# Altium footprint library SigFox.PcbLib: 10 footprints
Each footprint in its own frame and in the unit in brackets; x right, y up, seen from the top. Pads: shape width x height; smd on the part's side, far side on the other; paste and mask are expansions set on the pad; w line width, h text height; cw(c..) or ccw(c..) is an arc to the next point about the centre after c.
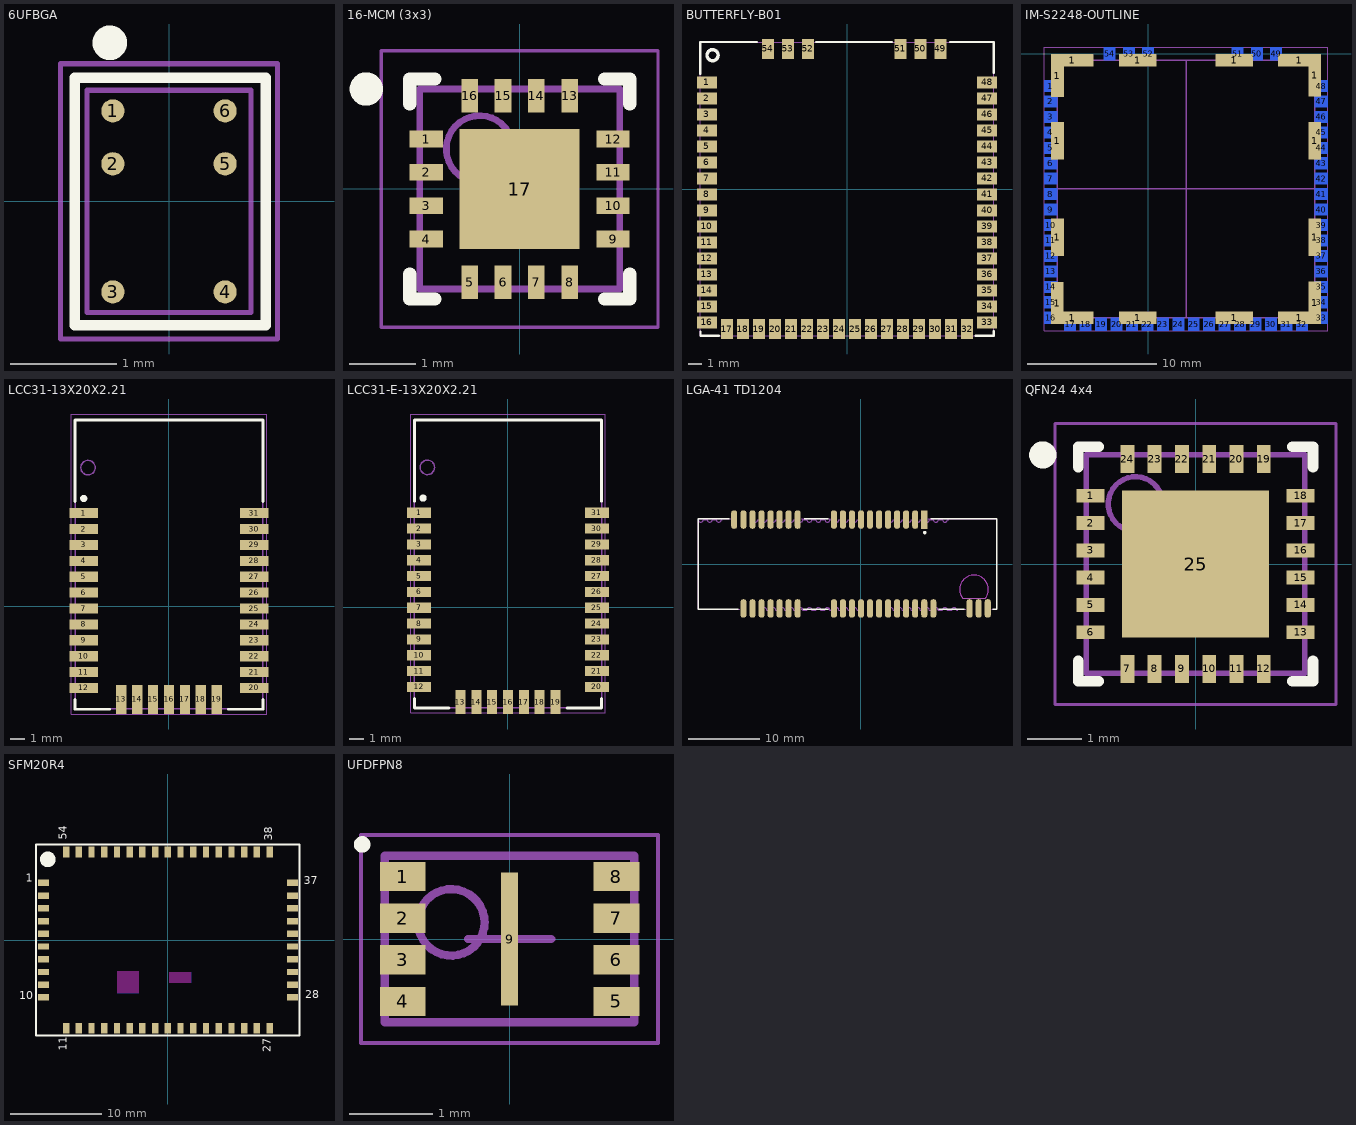
[diagram p0: the footprints below, top view; thin cyan lines are the x and y axes]

## 6UFBGA [mm] "Flip-Chip 6 bumps package"
pads (6):
  round 0.22 smd mask+0.05: 1(-0.53,0.855) 2(-0.53,0.355) 3(-0.53,-0.855) 4(0.53,-0.855) 5(0.53,0.355) 6(0.53,0.855)
Top Overlay:
  circle w0.254: c-0.559,1.499 r0.036
  lines w0.1: -0.889,-1.168 0.914,-1.168 0.914,1.168 -0.889,1.168 -0.889,-1.05 -0.889,-1.168
Mechanical 2:
  lines w0.05: -0.775,-1.05 -0.775,1.05 0.775,1.05 0.775,0 0.775,-1.05 -0.775,-1.05
Mechanical 15:
  lines w0.05: -1.025,-1.3 -1.025,-1.05 -1.025,1.3 1.025,1.3 1.025,-1.05 1.025,-1.3 0.775,-1.3 -1.025,-1.3
3D body: height 0.4, standoff 0.21, extent -0.775,-1.05 0.775,1.05
3D body: height 0.26, standoff 0, extent -0.655,0.227 -0.404,0.475
3D body: height 0.26, standoff 0, extent 0.405,0.727 0.656,0.975
3D body: height 0.26, standoff 0, extent -0.655,-0.983 -0.404,-0.735
3D body: height 0.26, standoff 0, extent 0.405,0.227 0.656,0.475
3D body: height 0.26, standoff 0, extent -0.655,0.727 -0.404,0.975
3D body: height 0.26, standoff 0, extent 0.405,-0.983 0.656,-0.735
3D body: height 0.63, standoff 0.4, extent -0.775,-1.05 0.775,1.05
3D body: height 0.63, standoff 0, extent -0.63,0.755 -0.43,0.954

## 16-MCM (3x3) [mm] "MCM (16-pin, 3.0 x 3.0 x 0.75 mm)"
height 0.75
pads (17):
  rect 0.5x0.249 smd: 1(-1.4,0.75) 2(-1.4,0.25) 3(-1.4,-0.25) 4(-1.4,-0.75) 9(1.4,-0.75) 10(1.4,-0.25) 11(1.4,0.25) 12(1.4,0.75)
  rect 0.249x0.5 smd: 5(-0.75,-1.4) 6(-0.25,-1.4) 7(0.25,-1.4) 8(0.75,-1.4) 13(0.75,1.4) 14(0.25,1.4) 15(-0.25,1.4) 16(-0.75,1.4)
  rect 1.798x1.798 smd: 17(0,0)
Top Overlay:
  circle w0.25: c-2.3,1.5 r0.125
  lines w0.2: -1.65,-1.275 -1.65,-1.65 -1.275,-1.65 ; -1.65,1.275 -1.65,1.65 -1.275,1.65 ; 1.275,-1.65 1.65,-1.65 1.65,-1.275 ; 1.275,1.65 1.65,1.65 1.65,1.275
Mechanical 13:
  circle w0.1: c-0.6,0.6 r0.5
  lines w0.1: -1.5,-1.5 -1.5,1.5 1.5,1.5 1.5,-1.5 -1.5,-1.5
Mechanical 15:
  lines w0.05: -2.075,-2.075 -2.075,2.075 2.075,2.075 2.075,-2.075 -2.075,-2.075
  lines w0.1: -0.5,0 0.5,0 ; 0,-0.5 0,0.5
3D body "16-MCM (3x3).step": height 0.75, standoff 0, extent -1.5,-1.5 1.5,1.5

## BUTTERFLY-B01 [mm] "SigFox Monarch Module with Bluetooth"
pads (54):
  rect 1.5x0.9 smd mask+0: 1(-10.5,8) 2(-10.5,6.8) 3(-10.5,5.6) 4(-10.5,4.4) 5(-10.5,3.2) 6(-10.5,2) 7(-10.5,0.8) 8(-10.5,-0.4) 9(-10.5,-1.6) 10(-10.5,-2.8) 11(-10.5,-4) 12(-10.5,-5.2) 13(-10.5,-6.4) 14(-10.5,-7.6) 15(-10.5,-8.8) 16(-10.5,-10) 33(10.5,-10) 34(10.5,-8.8) 35(10.5,-7.6) 36(10.5,-6.4) 37(10.5,-5.2) 38(10.5,-4) 39(10.5,-2.8) 40(10.5,-1.6) 41(10.5,-0.4) 42(10.5,0.8) 43(10.5,2) 44(10.5,3.2) 45(10.5,4.4) 46(10.5,5.6) 47(10.5,6.8) 48(10.5,8)
  rect 0.89x1.5 smd mask+0: 17(-9,-10.5) 18(-7.8,-10.5) 19(-6.6,-10.5) 20(-5.4,-10.5) 21(-4.2,-10.5) 22(-3,-10.5) 23(-1.8,-10.5) 24(-0.6,-10.5) 25(0.6,-10.5) 26(1.8,-10.5) 27(3,-10.5) 28(4.2,-10.5) 29(5.4,-10.5) 30(6.6,-10.5) 31(7.8,-10.5) 32(9,-10.5)
  rect 0.9x1.5 smd mask+0: 49(7,10.5) 50(5.5,10.5) 51(4,10.5) 52(-2.94,10.5) 53(-4.44,10.5) 54(-5.94,10.5)
Top Overlay:
  circle w0.254: c-10.084,10.033 r0.417
  lines w0.18: -11,8.648 -11,11.024 -6.774,11.024 ; -10.99,-10.707 -10.99,-10.998 -9.619,-10.998 ; -2.304,11.024 3.361,11.024 ; 7.755,11.024 11,11.024 11,8.699 ; 9.634,-11.012 11.006,-11.012 11.006,-10.681
Mechanical 1:
  lines w0.01: -11,-10.998 -11,11.024 11,11.024 11,-10.998 -11,-10.998
3D body "Butterfly_Module.step": height 4.1, standoff 0.01, extent -11,-10.998 10.996,11.024

## IM-S2248-OUTLINE [mm] "Butterfly Module"
pads (70):
  rect 1x0.9 smd far side mask+0: 1(-7.56,-2.5) 2(-7.56,-3.7) 3(-7.56,-4.9) 4(-7.56,-6.1) 5(-7.56,-7.3) 6(-7.56,-8.5) 7(-7.56,-9.7) 8(-7.56,-10.9) 9(-7.56,-12.1) 10(-7.56,-13.3) 11(-7.56,-14.5) 12(-7.56,-15.7) 13(-7.56,-16.9) 14(-7.56,-18.1) 15(-7.56,-19.3) 16(-7.56,-20.5) 33(13.44,-20.5) 34(13.44,-19.3) 35(13.44,-18.1) 36(13.44,-16.9) 37(13.44,-15.7) 38(13.44,-14.5) 39(13.44,-13.3) 40(13.44,-12.1) 41(13.44,-10.9) 42(13.44,-9.7) 43(13.44,-8.5) 44(13.44,-7.3) 45(13.44,-6.1) 46(13.44,-4.9) 47(13.44,-3.7) 48(13.44,-2.5)
  rect 1x3.3 smd: 1(-7.067,-19.357) 1(-7.06,-1.704) 1(12.94,-19.35) 1(12.94,-1.65)
  rect 1x2.9 smd: 1(-7.06,-14.25) 1(-7.06,-6.75) 1(12.94,-14.25) 1(12.94,-6.75)
  rect 3.3x1 smd: 1(-5.917,-20.5) 1(-5.91,-0.5) 1(11.736,-20.5) 1(11.736,-0.5)
  rect 2.9x1 smd: 1(-0.812,-0.5) 1(-0.81,-20.5) 1(6.69,-20.5) 1(6.69,-0.5)
  rect 0.89x1 smd far side mask+0: 17(-6.06,-21) 18(-4.86,-21) 19(-3.66,-21) 20(-2.46,-21) 21(-1.26,-21) 22(-0.06,-21) 23(1.14,-21) 24(2.34,-21) 25(3.54,-21) 26(4.74,-21) 27(5.94,-21) 28(7.14,-21) 29(8.34,-21) 30(9.54,-21) 31(10.74,-21) 32(11.94,-21)
  rect 0.9x1 smd far side mask+0: 49(9.94,0) 50(8.44,0) 51(6.94,0) 52(0,0) 53(-1.5,0) 54(-3,0)
Mechanical 1:
  lines w0.01: -8.06,-21.498 13.94,-21.498 13.94,0.524 -8.06,0.524 -8.06,-21.498
Mechanical 15:
  lines w0.1: -7.06,-10.5 12.94,-10.5 ; 2.94,-20.5 2.94,-0.5 ; -7.06,-20.5 -6.645,-20.5 12.802,-20.5 12.94,-20.5 12.94,-0.5 -7.06,-0.5 -7.06,-20.5

## LCC31-13X20X2.21 [mm] "LCC, 31-Leads, Body 13.00x20.20mm, Pitch 1.10mm, IPC Medium Density"
height 1
pads (31):
  rect 2x0.7 smd: 1(-5.9,6.442) 2(-5.9,5.342) 3(-5.9,4.242) 4(-5.9,3.142) 5(-5.9,2.042) 6(-5.9,0.942) 7(-5.9,-0.158) 8(-5.9,-1.258) 9(-5.9,-2.358) 10(-5.9,-3.458) 11(-5.9,-4.558) 12(-5.9,-5.658) 20(5.9,-5.658) 21(5.9,-4.558) 22(5.9,-3.458) 23(5.9,-2.358) 24(5.9,-1.258) 25(5.9,-0.158) 26(5.9,0.942) 27(5.9,2.042) 28(5.9,3.142) 29(5.9,4.242) 30(5.9,5.342) 31(5.9,6.442)
  rect 0.7x2 smd: 13(-3.3,-6.441) 14(-2.2,-6.441) 15(-1.1,-6.441) 16(0,-6.441) 17(1.1,-6.441) 18(2.2,-6.441) 19(3.3,-6.441)
Top Overlay:
  circle w0.25: c-5.9,7.458 r0.125
  lines w0.2: -6.5,-6.458 -6.5,-7.127 -4.1,-7.127 ; -6.5,7.242 -6.5,12.892 -4.1,12.892 ; -4.122,12.892 6.5,12.892 6.5,7.242 ; 4.1,-7.127 6.5,-7.127 6.5,-6.458
Mechanical 13:
  circle w0.1: c-5.6,9.592 r0.5
  lines w0.1: -6.5,-7.108 -6.5,12.892 6.5,12.892 6.5,-7.108 -6.5,-7.108
Mechanical 15:
  lines w0.05: -6.75,-7.457 -6.75,13.3 6.75,13.3 6.75,-7.457 -6.75,-7.457
3D body "User Library-RCZ2_4.STEP": height 2.21, standoff 0, extent -6.5,-7.108 6.5,12.892
3D body: height 2.22, standoff 0, extent 2.9,1.054 4.061,2.608
3D body: height 2.22, standoff 0, extent 1.497,1.049 2.856,2.616
3D body: height 2.22, standoff 0, extent -2.151,5.761 1.029,9.683
3D body: height 2.22, standoff 0, extent -5.325,5.748 -2.145,9.67
3D body: height 2.22, standoff 0, extent -2.158,3.481 -0.108,6.581
3D body: height 2.22, standoff 0, extent -4.184,3.473 -2.134,6.573
3D body: height 2.22, standoff 0.1, extent 3.6,8.782 4.334,9.583
3D body: height 2.22, standoff 0.1, extent 1.547,8.792 2.621,9.575
3D body: height 2.22, standoff 0.1, extent 4.465,8.796 4.889,9.572
3D body: height 2.22, standoff 0.1, extent 2.727,8.789 2.886,9.577
3D body: height 2.22, standoff 0.1, extent 3.011,8.782 3.514,9.585

## LCC31-E-13X20X2.21 [mm] "LCC, 31-Leads, Body 13.00x20.20mm, Pitch 1.10mm, IPC Medium Density"
height 1
pads (31):
  rect 1.65x0.7 smd: 1(-6.175,6.579) 2(-6.175,5.479) 3(-6.175,4.379) 4(-6.175,3.279) 5(-6.175,2.179) 6(-6.175,1.079) 7(-6.175,-0.021) 8(-6.175,-1.121) 9(-6.175,-2.221) 10(-6.175,-3.321) 11(-6.175,-4.421) 12(-6.175,-5.521) 20(6.175,-5.521) 21(6.175,-4.421) 22(6.175,-3.321) 23(6.175,-2.221) 24(6.175,-1.121) 25(6.175,-0.021) 26(6.175,1.079) 27(6.175,2.179) 28(6.175,3.279) 29(6.175,4.379) 30(6.175,5.479) 31(6.175,6.579)
  rect 0.7x1.65 smd: 13(-3.3,-6.579) 14(-2.2,-6.579) 15(-1.1,-6.579) 16(0,-6.579) 17(1.1,-6.579) 18(2.2,-6.579) 19(3.3,-6.579)
Top Overlay:
  circle w0.25: c-5.9,7.595 r0.125
  lines w0.2: -6.5,-6.321 -6.5,-6.99 -4.1,-6.99 ; -6.5,7.379 -6.5,13.029 -4.1,13.029 ; -4.122,13.029 6.5,13.029 6.5,7.379 ; 4.1,-6.99 6.5,-6.99 6.5,-6.321
Mechanical 13:
  circle w0.1: c-5.6,9.729 r0.5
  lines w0.1: -6.5,-6.971 6.5,-6.971 ; -6.5,-6.971 -6.5,13.029 ; -6.5,-6.971 6.5,-6.971 ; -6.5,-6.971 -6.5,13.029 ; -6.5,-6.971 6.5,-6.971 ; -6.5,-6.971 -6.5,13.029 ; -6.5,13.029 6.5,13.029 ; -6.5,13.029 6.5,13.029 ; -6.5,13.029 6.5,13.029 ; 6.5,-6.971 6.5,13.029 ; 6.5,-6.971 6.5,13.029 ; 6.5,-6.971 6.5,13.029
Mechanical 15:
  lines w0.05: -6.75,-7.32 6.75,-7.32 ; -6.75,-7.32 -6.75,13.437 ; -6.75,-7.32 6.75,-7.32 ; -6.75,-7.32 -6.75,13.437 ; -6.75,-7.32 6.75,-7.32 ; -6.75,-7.32 -6.75,13.437 ; -6.75,13.437 6.75,13.437 ; -6.75,13.437 6.75,13.437 ; -6.75,13.437 6.75,13.437 ; 6.75,-7.32 6.75,13.437 ; 6.75,-7.32 6.75,13.437 ; 6.75,-7.32 6.75,13.437
3D body "User Library-RCZ2_4.STEP": height 2.21, standoff 0, extent -6.5,-6.971 6.5,13.029
3D body: height 2.22, standoff 0.1, extent 3.011,8.92 3.514,9.723
3D body: height 2.22, standoff 0.1, extent 2.727,8.927 2.886,9.715
3D body: height 2.22, standoff 0.1, extent 4.465,8.934 4.889,9.71
3D body: height 2.22, standoff 0.1, extent 1.547,8.93 2.621,9.713
3D body: height 2.22, standoff 0.1, extent 3.6,8.92 4.334,9.721
3D body: height 2.22, standoff 0, extent -4.184,3.611 -2.134,6.711
3D body: height 2.22, standoff 0, extent -2.158,3.619 -0.108,6.719
3D body: height 2.22, standoff 0, extent -5.325,5.885 -2.145,9.807
3D body: height 2.22, standoff 0, extent -2.151,5.899 1.029,9.821
3D body: height 2.22, standoff 0, extent 1.497,1.187 2.856,2.753
3D body: height 2.22, standoff 0, extent 2.9,1.192 4.061,2.746

## LGA-41 TD1204 [mm]
pads (41):
  rect 0.85x2.6 smd: 1(8.89,6.25)
  rrect90% 0.85x2.6 smd: 2(7.62,6.25) 3(6.35,6.25) 4(5.08,6.25) 5(3.81,6.25) 6(2.54,6.25) 7(1.27,6.25) 8(0,6.25) 9(-1.27,6.25) 10(-2.54,6.25) 11(-3.81,6.25) 12(-8.89,6.25) 13(-10.16,6.25) 14(-11.43,6.25) 15(-12.7,6.25) 16(-13.97,6.25) 17(-15.24,6.25) 18(-16.51,6.25) 19(-17.81,6.25) 20(-16.51,-6.25) 21(-15.24,-6.25) 22(-13.97,-6.25) 23(-12.7,-6.25) 24(-11.43,-6.25) 25(-10.16,-6.25) 26(-8.89,-6.25) 27(-3.81,-6.25) 28(-2.54,-6.25) 29(-1.27,-6.25) 30(0,-6.25) 31(1.27,-6.25) 32(2.54,-6.25) 33(3.81,-6.25) 34(5.08,-6.25) 35(6.35,-6.25) 36(7.62,-6.25) 37(8.89,-6.25) 38(10.16,-6.25) 39(15.27,-6.25) 40(16.54,-6.25) 41(17.81,-6.25)
Top Overlay:
  circle w0.25: c8.959,4.41 r0.125
  lines w0.2: -18.542,6.35 -22.86,6.35 -22.86,-6.35 -17.272,-6.35 ; -8.128,-6.35 -4.572,-6.35 ; -8.001,6.35 -4.572,6.35 ; 9.779,6.35 19.05,6.35 19.05,-6.35 18.542,-6.35 ; 10.922,-6.35 14.478,-6.35
Mechanical 2:
  lines w0.127: -18.31,6.35 -22.87,6.35 -22.87,-6.35 -17.01,-6.35 ; -8.36,-6.35 -4.31,-6.35 ; -8.36,6.35 -4.31,6.35 ; 9.39,6.35 19.04,6.35 19.04,-6.35 18.34,-6.35 ; 10.69,-6.35 14.74,-6.35
Mechanical 10 keep-out:
  lines w0.127: 14.29,-4.83 cw(c15.879,-3.57) 17.46,-4.84 14.31,-4.84
Mechanical 18:
  lines w0.127: -23.039,6.223 -22.869,6.223 ccw(c-22.519,6.223) -22.169,6.223 -22.019,6.223 ; -21.999,6.223 -21.599,6.223 ccw(c-21.249,6.223) -20.899,6.223 -20.749,6.223 ; -20.729,6.223 -20.329,6.223 ccw(c-19.979,6.223) -19.629,6.223 -19.479,6.223 ; -15.399,6.223 -15.219,6.223 ccw(c-14.869,6.223) -14.519,6.223 -14.369,6.223 ; -14.349,6.223 -13.949,6.223 ccw(c-13.599,6.223) -13.249,6.223 -13.099,6.223 ; -14.099,-6.477 -13.949,-6.477 cw(c-13.599,-6.477) -13.249,-6.477 -12.849,-6.477 ; -13.079,6.223 -12.679,6.223 ccw(c-12.329,6.223) -11.979,6.223 -11.829,6.223 ; -12.829,-6.477 -12.679,-6.477 cw(c-12.329,-6.477) -11.979,-6.477 -11.579,-6.477 ; -11.809,6.223 -11.409,6.223 ccw(c-11.059,6.223) -10.709,6.223 -10.559,6.223 ; -11.559,-6.477 -11.409,-6.477 cw(c-11.059,-6.477) -10.709,-6.477 -10.309,-6.477 ; -10.539,6.223 -10.139,6.223 ccw(c-9.789,6.223) -9.439,6.223 -9.289,6.223 ; -10.289,-6.477 -10.139,-6.477 cw(c-9.789,-6.477) -9.439,-6.477 -9.039,-6.477 ; -9.269,6.223 -8.869,6.223 ccw(c-8.519,6.223) -8.169,6.223 -8.019,6.223 ; -9.019,-6.477 -8.869,-6.477 cw(c-8.519,-6.477) -8.169,-6.477 -7.769,-6.477 ; -7.999,6.223 -7.599,6.223 ccw(c-7.249,6.223) -6.899,6.223 -6.749,6.223 ; -7.749,-6.477 -7.599,-6.477 cw(c-7.249,-6.477) -6.899,-6.477 -6.499,-6.477 ; -6.729,6.223 -6.329,6.223 ccw(c-5.979,6.223) -5.629,6.223 -5.479,6.223 ; -6.479,-6.477 -6.329,-6.477 cw(c-5.979,-6.477) -5.629,-6.477 -5.229,-6.477 ; -5.459,6.223 -5.059,6.223 ccw(c-4.709,6.223) -4.359,6.223 -4.209,6.223 ; -5.209,-6.477 -5.059,-6.477 cw(c-4.709,-6.477) -4.359,-6.477 -3.959,-6.477 ; -4.189,6.223 -3.789,6.223 ccw(c-3.439,6.223) -3.089,6.223 -2.939,6.223 ; -3.939,-6.477 -3.789,-6.477 cw(c-3.439,-6.477) -3.089,-6.477 -2.689,-6.477 ; -2.919,6.223 -2.519,6.223 ccw(c-2.169,6.223) -1.819,6.223 -1.669,6.223 ; -2.669,-6.477 -2.519,-6.477 cw(c-2.169,-6.477) -1.819,-6.477 -1.419,-6.477 ; -1.649,6.223 -1.249,6.223 ccw(c-0.899,6.223) -0.549,6.223 -0.399,6.223 ; -1.399,-6.477 -1.249,-6.477 cw(c-0.899,-6.477) -0.549,-6.477 -0.449,-6.477 ; 3.651,6.223 3.831,6.223 ccw(c4.181,6.223) 4.531,6.223 4.681,6.223 ; 3.681,-6.477 3.831,-6.477 cw(c4.181,-6.477) 4.531,-6.477 4.931,-6.477 ; 4.701,6.223 5.101,6.223 ccw(c5.451,6.223) 5.801,6.223 5.951,6.223 ; 4.951,-6.477 5.101,-6.477 cw(c5.451,-6.477) 5.801,-6.477 6.201,-6.477 ; 5.971,6.223 6.371,6.223 ccw(c6.721,6.223) 7.071,6.223 7.221,6.223 ; 6.221,-6.477 6.371,-6.477 cw(c6.721,-6.477) 7.071,-6.477 7.471,-6.477 ; 7.241,6.223 7.641,6.223 ccw(c7.991,6.223) 8.341,6.223 8.491,6.223 ; 7.491,-6.477 7.641,-6.477 cw(c7.991,-6.477) 8.341,-6.477 8.741,-6.477 ; 8.511,6.223 8.911,6.223 ccw(c9.261,6.223) 9.611,6.223 9.761,6.223 ; 8.761,-6.477 8.911,-6.477 cw(c9.261,-6.477) 9.611,-6.477 10.011,-6.477 ; 9.781,6.223 10.181,6.223 ccw(c10.531,6.223) 10.881,6.223 11.031,6.223 ; 10.031,-6.477 10.181,-6.477 cw(c10.531,-6.477) 10.881,-6.477 11.281,-6.477 ; 11.051,6.223 11.451,6.223 ccw(c11.801,6.223) 12.151,6.223 12.301,6.223 ; 11.301,-6.477 11.451,-6.477 cw(c11.801,-6.477) 12.151,-6.477 12.551,-6.477 ; 12.571,-6.477 12.721,-6.477 cw(c13.071,-6.477) 13.421,-6.477 13.591,-6.477
3D body: height 3.8, standoff 0.01, extent -22.606,-6.096 18.796,6.096
3D body: height 1, standoff 0, extent -22.865,-6.35 19.045,6.35
3D body "U.FL-R-SMT-1.stp": height 2.26, standoff 1.01, extent -22.074,2.667 -19.074,5.767

## QFN24 4x4 [mm] "QFN24 4x4x1pitch 0.5 mm"
height 0.9
pads (25):
  rect 0.508x0.254 smd: 1(-1.925,1.25) 2(-1.925,0.75) 3(-1.925,0.25) 4(-1.925,-0.25) 5(-1.925,-0.75) 6(-1.925,-1.25) 13(1.925,-1.25) 14(1.925,-0.75) 15(1.925,-0.25) 16(1.925,0.25) 17(1.925,0.75) 18(1.925,1.25)
  rect 0.254x0.508 smd: 7(-1.25,-1.925) 8(-0.75,-1.925) 9(-0.25,-1.925) 10(0.25,-1.925) 11(0.75,-1.925) 12(1.25,-1.925) 19(1.25,1.925) 20(0.75,1.925) 21(0.25,1.925) 22(-0.25,1.925) 23(-0.75,1.925) 24(-1.25,1.925)
  rect 2.7x2.7 smd: 25(0,0)
Top Overlay:
  circle w0.25: c-2.8,2 r0.125
  lines w0.2: -2.15,-1.775 -2.15,-2.15 -1.775,-2.15 ; -2.15,1.775 -2.15,2.15 -1.775,2.15 ; 1.775,-2.15 2.15,-2.15 2.15,-1.775 ; 1.775,2.15 2.15,2.15 2.15,1.775
Mechanical 13:
  circle w0.1: c-1.1,1.1 r0.5
  lines w0.1: -2,-2 -2,2 2,2 2,-2 -2,-2
Mechanical 15:
  lines w0.05: -2.575,-2.575 -2.575,2.575 2.575,2.575 2.575,-2.575 -2.575,-2.575
  lines w0.1: -0.5,0 0.5,0 ; 0,-0.5 0,0.5
3D body "QFN24 4x4.step": height 0.9, standoff 0, extent -2.02,-2.02 2.02,2.02

## SFM20R4 [mm]
pads (54):
  rect 1.2x0.7 smd: 1(-13.7,6.3) 2(-13.7,4.9) 3(-13.7,3.5) 4(-13.7,2.1) 5(-13.7,0.7) 6(-13.7,-0.7) 7(-13.7,-2.1) 8(-13.7,-3.5) 9(-13.7,-4.9) 10(-13.7,-6.3) 28(13.7,-6.3) 29(13.7,-4.9) 30(13.7,-3.5) 31(13.7,-2.1) 32(13.7,-0.7) 33(13.7,0.7) 34(13.7,2.1) 35(13.7,3.5) 36(13.7,4.9) 37(13.7,6.3)
  rect 0.7x1.2 smd: 11(-11.2,-9.7) 12(-9.8,-9.7) 13(-8.4,-9.7) 14(-7,-9.7) 15(-5.6,-9.7) 16(-4.2,-9.7) 17(-2.8,-9.7) 18(-1.4,-9.7) 19(0,-9.7) 20(1.4,-9.7) 21(2.8,-9.7) 22(4.2,-9.7) 23(5.6,-9.7) 24(7,-9.7) 25(8.4,-9.7) 26(9.8,-9.7) 27(11.2,-9.7) 38(11.2,9.7) 39(9.8,9.7) 40(8.4,9.7) 41(7,9.7) 42(5.6,9.7) 43(4.2,9.7) 44(2.8,9.7) 45(1.4,9.7) 46(0,9.7) 47(-1.4,9.7) 48(-2.8,9.7) 49(-4.2,9.7) 50(-5.6,9.7) 51(-7,9.7) 52(-8.4,9.7) 53(-9.8,9.7) 54(-11.2,9.7)
Top Overlay:
  circle w1: c-13.208,8.89 r0.359
  lines w0.2: -14.5,-10.5 14.5,-10.5 14.5,10.541 -14.5,10.541 -14.5,-10.5
  text "54" at -10.795,11.049 h1.52
  text "38" at 11.811,10.922 h1.52
  text "37" at 14.986,5.842 h1.52
  text "28" at 15.113,-6.731 h1.52
  text "27" at 11.684,-12.319 h1.52
  text "11" at -10.795,-12.192 h1.52
  text "10" at -16.383,-6.858 h1.52
  text "1" at -15.621,6.096 h1.52
Keep-Out Layer:
  rectangle: 0.15,-4.7 2.6,-3.5
  rectangle: -5.6,-5.85 -3.15,-3.4
3D body: height 2.3, standoff 0, extent -14.025,-9.984 14.025,10.066
3D body: height 0.8, standoff 0, extent -14.5,-10.5 14.5,10.541

## UFDFPN8 [mm] "UFDFPN8 8-Leads, Body 2,00x3,00mm, Pitch 0,50mm, Thermal Pad 1,60x0,20mm, IPC Medium Density"
height 0.55
pads (9):
  rect 0.55x0.35 smd: 1(-1.285,0.75) 2(-1.285,0.25) 3(-1.285,-0.25) 4(-1.285,-0.75) 5(1.285,-0.75) 6(1.285,-0.25) 7(1.285,0.25) 8(1.285,0.75)
  rect 0.2x1.6 smd: 9(0,0)
Top Overlay:
  circle w0.1: c-1.772,1.137 r0.05
Mechanical 13:
  circle w0.1: c-0.7,0.2 r0.4
  lines w0.1: -1.5,-1 -1.5,1 1.5,1 1.5,-1 -1.5,-1
Mechanical 15:
  lines w0.05: -1.785,-1.25 -1.785,1.25 1.785,1.25 1.785,-1.25 -1.785,-1.25
  lines w0.1: -0.5,0 0.5,0 ; 0,-0.5 0,0.5
3D body "UFDFPN8.step": height 0.55, standoff 0, extent -1.501,-1 1.501,1